# Altium schematic symbol library Header Connector.SchLib: 22 symbols
Pins are listed as number, name and electrical type; pins without a type are passive.

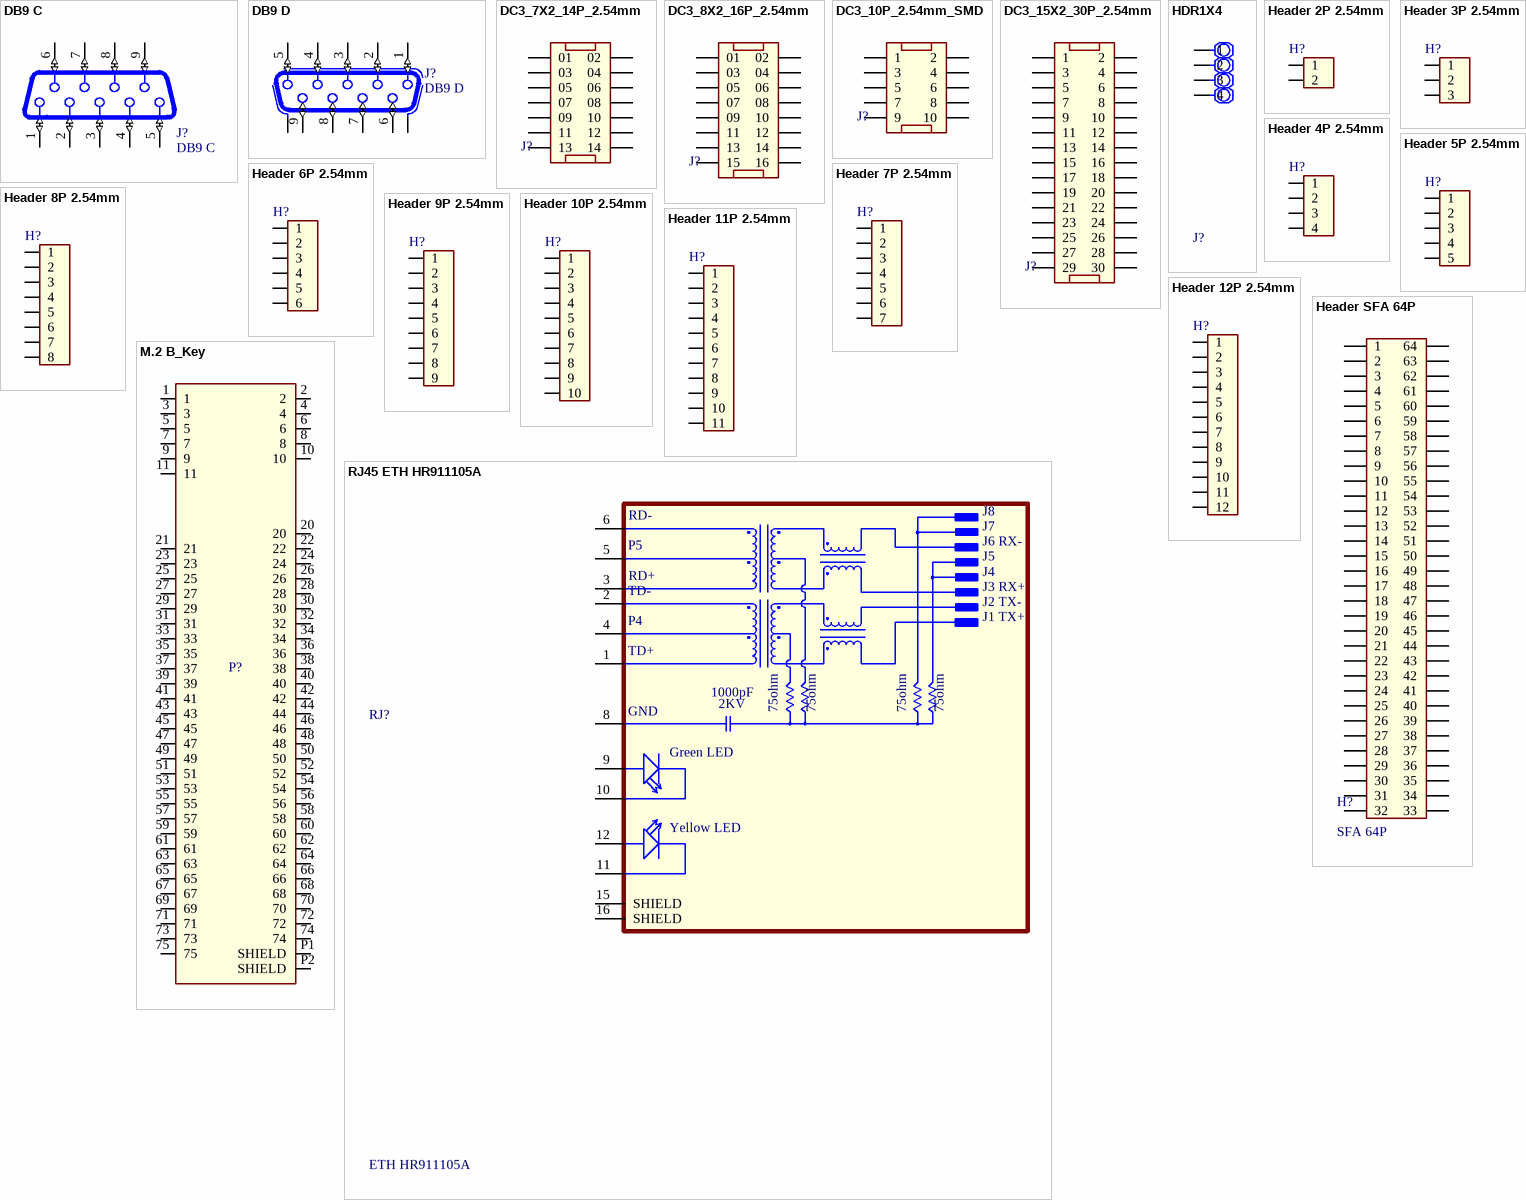
[diagram p0: symbols DB9 C to RJ45 ETH HR911105A]

## DB9 C
designator J?
Through hole; MF: {'manufacturer': u'W\xfcrth Elektronik'}; MP: 618009231121; Package: None; Price: None; Value: *; Availability: Unavailable; ComponentLink1Description: New link; ComponentLink1URL: https://www.snapeda.com/parts/618009231121/W%C3%BCrth%20Elektronik/view-part/?ref=search&t=D%20SUB%209P&ab_test_case=b
footprint DB9_C
pins: 1 (io), 2 (io), 3 (io), 4 (io), 5 (io), 6 (io), 7 (io), 8 (io), 9 (io)

## DB9 D
designator J?
Through hole; MF: {'manufacturer': u'W\xfcrth Elektronik'}; MP: 618009231121; Package: None; Price: None; Value: *; Availability: Unavailable; ComponentLink1Description: New link; ComponentLink1URL: https://www.snapeda.com/parts/618009231121/W%C3%BCrth%20Elektronik/view-part/?ref=search&t=D%20SUB%209P&ab_test_case=b
footprint DB9_D
pins: 1 (io), 2 (io), 3 (io), 4 (io), 5 (io), 6 (io), 7 (io), 8 (io), 9 (io), S1 SHIELD1 (io), S2 SHIELD2 (io)

## DC3_7X2_14P_2.54mm
designator J?  (value not drawn)
IDC Cable-to-Board Connector System, Shrouded Slim Line Header, Vertical, Through Hole, Double Row, 14 Positions, 2.54mm (0.100in) Pitch.; MP: 66506-020LF; MF: Amphenol ICC (FCI); Purchase-URL: https://pricing.snapeda.com/search/part/66506-020LF/?ref=eda; Availability: In Stock; SnapEDA_Link: https://www.snapeda.com/parts/66506-020LF/Amphenol+FCI/view-part/?ref=snap; Package: None; Check_prices: https://www.snapeda.com/parts/66506-020LF/Amphenol+FCI/view-part/?ref=eda; Value: *; Price: None
footprint DC3_CON_7X2_2.54MM
pins: 01, 02, 03, 04, 05, 06, 07, 08, 09, 10, 11, 12, 13, 14

## DC3_8X2_16P_2.54mm
designator J?  (value not drawn)
QuickieÂ® IDC Cable-to-Board Connector System, Shrouded Slim Line Header, Vertical, Through Hole, Double Row, 16 Positions, 2.54mm (0.100in) Pitch.; MP: 88880-044; MF: Amphenol ICC (FCI); Purchase-URL: https://pricing.snapeda.com/search/part/88880-044/?ref=eda; Availability: In Stock; SnapEDA_Link: https://www.snapeda.com/parts/88880-044/Amphenol+FCI/view-part/?ref=snap; Package: None; Value: *; Check_prices: https://www.snapeda.com/parts/88880-044/Amphenol+FCI/view-part/?ref=eda; Price: None
footprint DC3_8X2_16P_2.54MM
footprint DC3_RA_8X2_16P_2.54MM
pins: 01, 02, 03, 04, 05, 06, 07, 08, 09, 10, 11, 12, 13, 14, 15, 16

## DC3_10P_2.54mm_SMD
designator J?  (value not drawn)
SMD
footprint DC3_2.54_2X5_SMD_10P_2.54MM
pins: 1, 2, 3, 4, 5, 6, 7, 8, 9, 10

## DC3_15X2_30P_2.54mm
designator J?  (value not drawn)
IDC Cable-to-Board Connector System, Shrouded Slim Line Header, Vertical, Through Hole, Double Row, 30 Positions, 2.54mm (0.100in) Pitch.; MP: 66506-020LF; MF: Amphenol ICC (FCI); Purchase-URL: https://pricing.snapeda.com/search/part/66506-020LF/?ref=eda; Availability: In Stock; SnapEDA_Link: https://www.snapeda.com/parts/66506-020LF/Amphenol+FCI/view-part/?ref=snap; Package: None; Check_prices: https://www.snapeda.com/parts/66506-020LF/Amphenol+FCI/view-part/?ref=eda; Value: *; Price: None
footprint DC3_15X2_30P_2.54MM
footprint DC3_RA_15X2_30P_2.54MM
pins: 1, 2, 3, 4, 5, 6, 7, 8, 9, 10, 11, 12, 13, 14, 15, 16, 17, 18, 19, 20, 21, 22, 23, 24, 25, 26, 27, 28, 29, 30

## HDR1X4
designator J?
Header 1x4 LED RGB light
footprint HDR 1x4 (LED bar light)
pins: 1, 2, 3, 4

## Header 2P 2.54mm
designator H?, comment XH2.54 2  (value not drawn)
Through hole V/R; Ten_Linh_Kien: Header 2P XH2.54-2P; Don_Vi: Con
footprint XH2.54M-2
footprint XH2.54M-2 R
pins: 1, 2

## Header 3P 2.54mm
designator H?, comment XH2.54 1  (value not drawn)
Through hole V/R; Ten_Linh_Kien: Header 3P XH2.54-4P; Don_Vi: Con
footprint XH2.54M-3
footprint XH2.54M-3 R
pins: 1, 2, 3

## Header 4P 2.54mm
designator H?, comment XH2.54 4  (value not drawn)
Through hole V/R; Ten_Linh_Kien: Header 4P XH2.54-4P; Don_Vi: Con
footprint XH2.54M-4
footprint XH2.54M-4 R
pins: 1, 2, 3, 4

## Header 5P 2.54mm
designator H?, comment XH2.54 5  (value not drawn)
Through hole V/R; Ten_Linh_Kien: Header 5P XH2.54-5P; Don_Vi: Con
footprint XH2.54M-5
footprint XH2.54M-5 R
pins: 1, 2, 3, 4, 5

## Header 6P 2.54mm
designator H?, comment XH2.54 6  (value not drawn)
Through hole V/R; Ten_Linh_Kien: Header 6P XH2.54-6P; Don_Vi: Con
footprint XH2.54M-6
footprint XH2.54M-6 R
pins: 1, 2, 3, 4, 5, 6

## Header 7P 2.54mm
designator H?, comment XH2.54 7  (value not drawn)
Through hole V/R; Ten_Linh_Kien: Header 7P XH2.54-7P; Don_Vi: Con
footprint XH2.54M-7
footprint XH2.54M-7 R
pins: 1, 2, 3, 4, 5, 6, 7

## Header 8P 2.54mm
designator H?, comment XH 2.54 8  (value not drawn)
Through hole V/R; Ten_Linh_Kien: Header 8P XH2.54-8P; Don_Vi: Con
footprint XH2.54M-8
footprint XH2.54M-8 R
pins: 1, 2, 3, 4, 5, 6, 7, 8

## Header 9P 2.54mm
designator H?, comment XH2.54 9  (value not drawn)
Through hole V/R; Ten_Linh_Kien: Header 8P XH2.54-8P; Don_Vi: Con
footprint XH2.54M-9
footprint XH2.54M-9 R
pins: 1, 2, 3, 4, 5, 6, 7, 8, 9

## Header 10P 2.54mm
designator H?, comment XH2.54 10  (value not drawn)
Through hole V/R; Ten_Linh_Kien: Header 10P XH2.54-10P; Don_Vi: Con
footprint XH2.54M-10
footprint XH2.54M-10 R
pins: 1, 2, 3, 4, 5, 6, 7, 8, 9, 10

## Header 11P 2.54mm
designator H?, comment XH2.54 11  (value not drawn)
Through hole V/R; Ten_Linh_Kien: Header 11P XH2.54-10P; Don_Vi: Con
footprint XH2.54M-11
footprint XH2.54M-11 R
pins: 1, 2, 3, 4, 5, 6, 7, 8, 9, 10, 11

## Header 12P 2.54mm
designator H?, comment XH2.54 12  (value not drawn)
Through hole V/R; Ten_Linh_Kien: Header 12P XH2.54-10P; Don_Vi: Con
footprint XH2.54M-12
footprint XH2.54M-12 R
pins: 1, 2, 3, 4, 5, 6, 7, 8, 9, 10, 11, 12

## Header SFA 64P
designator H?, comment SFA 64P
Through hole R
footprint DIN41612-Male-Right
pins: 1, 2, 3, 4, 5, 6, 7, 8, 9, 10, 11, 12, 13, 14, 15, 16, 17, 18, 19, 20, 21, 22, 23, 24, 25, 26, 27, 28, 29, 30, 31, 32, 33, 34, 35, 36, 37, 38, 39, 40, 41, 42, 43, 44, 45, 46, 47, 48, 49, 50, 51, 52, 53, 54, 55, 56, 57, 58, 59, 60, 61, 62, 63, 64

## M.2 B_Key
designator P?  (value not drawn)
PCIe M.2 Connectors, Storage and Server Connector, P=0.5mm, H=4.2mm, Key B,Gold Plating; MF: Amphenol ICC; MP: MDT420B03001; SnapEDA_Link: https://www.snapeda.com/parts/MDT420B03001/Amphenol/view-part/?ref=snap; Package: None; Value: *; Check_prices: https://www.snapeda.com/parts/MDT420B03001/Amphenol/view-part/?ref=eda
footprint M.2 B_Key
pins: 1, 2, 3, 4, 5, 6, 7, 8, 9, 10, 11, 20, 21, 22, 23, 24, 25, 26, 27, 28, 29, 30, 31, 32, 33, 34, 35, 36, 37, 38, 39, 40, 41, 42, 43, 44, 45, 46, 47, 48, 49, 50, 51, 52, 53, 54, 55, 56, 57, 58, 59, 60, 61, 62, 63, 64, 65, 66, 67, 68, 69, 70, 71, 72, 73, 74, 75, P1 SHIELD, P2 SHIELD

## RJ45 ETH HR911105A
designator RJ?, comment ETH HR911105A
RJ45 ETH 8P
footprint RJ45 ETH HR911105A
pins: 1 TD+, 2 TD-, 3 RD+, 4 P4, 5 P5, 6 RD-, 8 GND (power), 9 GA, 10 GC, 11 YC, 12 YA, 15 SHIELD, 16 SHIELD
text: J8; J7; J6 RX-; J5; J4; J3 RX+; J2 TX-; J1 TX+; 1000pF; 2KV; 75ohm; Green LED; Yellow LED

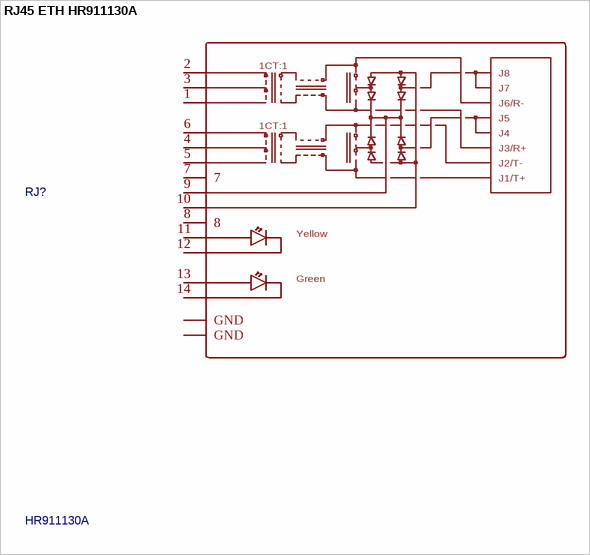
[diagram p1: symbol RJ45 ETH HR911130A]

## RJ45 ETH HR911130A
designator RJ?, comment HR911130A
RJ45 ETH 10P; BOM_Manufacturer: HANRUN(汉仁); BOM_Manufacturer Part: HY931147C; BOM_Supplier: LCSC; BOM_Supplier Part: C91754; BOM_JLCPCB Part Class: Extended Part; spicePre: R; spiceSymbolName: HY931147C
footprint RJ45 ETH HR911130A (C91754)
pins: 1, 2, 3, 4, 5, 6, 7, 8, 9, 10, 11, 12, 13, 14, GND1 GND, GND2 GND
text: 1CT:1; J8; J7; J6/R-; J5; J4; J3/R+; J2/T-; J1/T+; Yellow; Green